# Altium schematic symbol library CM41532768DZFT.Schlib: 1 symbol
Pins are listed as number, name and electrical type; pins without a type are passive.

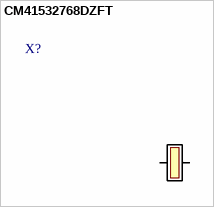
[diagram p0: symbol CM41532768DZFT]

## CM41532768DZFT
designator X?
Crystal
pins: 1, 2